# Altium footprint library Library Led Yazaki.PcbLib: 35 footprints (part 2 of 3)
Each footprint in its own frame and in the unit in brackets; x right, y up, seen from the top. Pads: shape width x height; smd on the part's side, far side on the other; paste and mask are expansions set on the pad; w line width, h text height; cw(c..) or ccw(c..) is an arc to the next point about the centre after c.
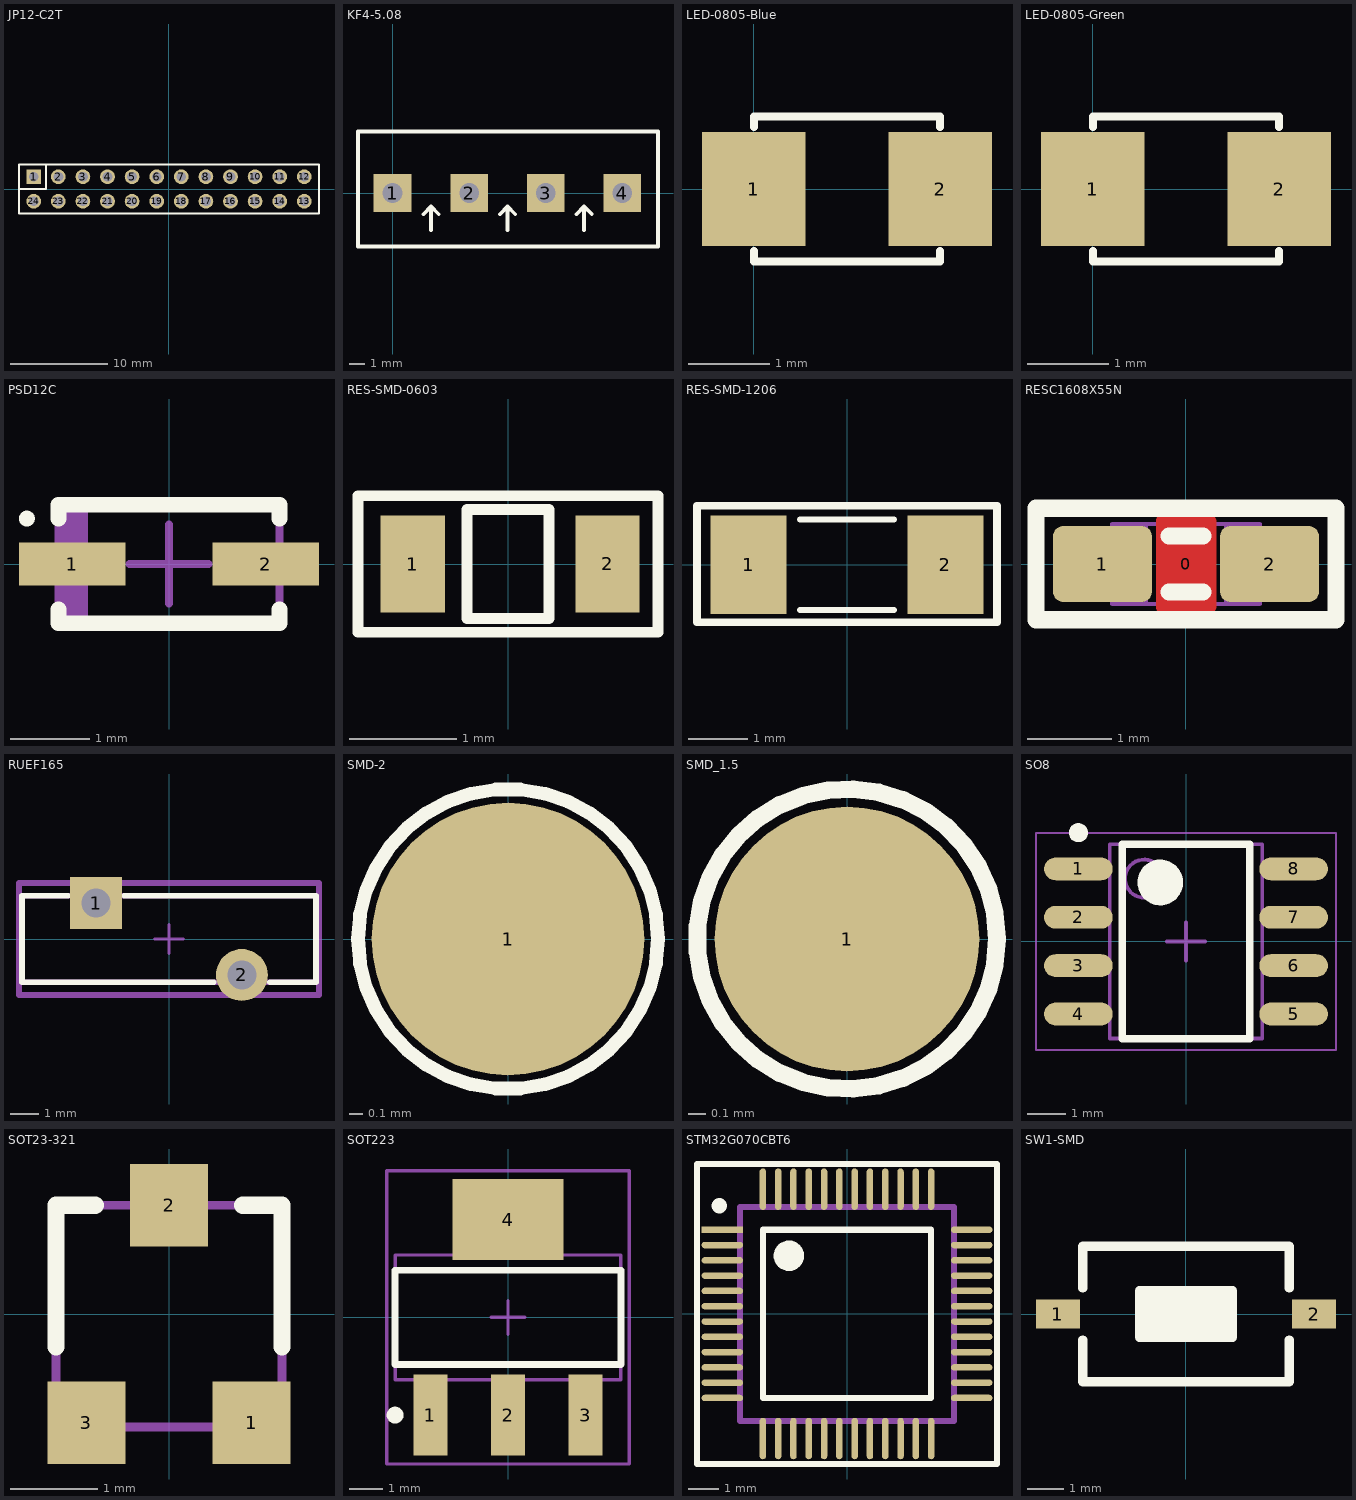
[diagram p1: the footprints below, top view; thin cyan lines are the x and y axes]

## JP12-C2T [mm] "24 pins, dual row, straight, gold plating"
height 8.5
pads (24):
  rect 1.52x1.52 hole 1.02: 1(-13.97,1.27)
  round 1.52 hole 1.02: 2(-11.43,1.27) 3(-8.89,1.27) 4(-6.35,1.27) 5(-3.81,1.27) 6(-1.27,1.27) 7(1.27,1.27) 8(3.81,1.27) 9(6.35,1.27) 10(8.89,1.27) 11(11.43,1.27) 12(13.97,1.27) 13(13.97,-1.27) 14(11.43,-1.27) 15(8.89,-1.27) 16(6.35,-1.27) 17(3.81,-1.27) 18(1.27,-1.27) 19(-1.27,-1.27) 20(-3.81,-1.27) 21(-6.35,-1.27) 22(-8.89,-1.27) 23(-11.43,-1.27) 24(-13.97,-1.27)
Top Overlay:
  lines w0.2: -15.49,0 -12.7,0 -12.7,2.54 ; -15.49,-2.54 -15.49,2.54 15.49,2.54 15.49,-2.54 -15.49,-2.54
3D body "61302421821.stp": height 8.51, standoff -3.09, extent -15.49,-2.54 15.49,2.54

## KF4-5.08 [mm]
height 8.5
pads (4):
  rect 2.5x2.5 hole 1.3: 1(0,0) 2(5.08,0) 3(10.147,0) 4(15.215,0)
Top Overlay:
  lines w0.254: 2.045,-1.41 2.553,-0.902 ; 2.553,-2.464 2.553,-0.902 ; 3.061,-1.41 2.553,-0.902 ; 7.112,-1.41 7.62,-0.902 ; 7.62,-2.464 7.62,-0.902 ; 8.128,-1.41 7.62,-0.902 ; 12.179,-1.41 12.687,-0.902 ; 12.687,-2.464 12.687,-0.902 ; 13.195,-1.41 12.687,-0.902 ; -2.286,-3.531 -2.286,4.064 17.577,4.064 17.577,-3.531 -2.286,-3.531
3D body "SW3DPS-HDR1x4-MED-GREEN.STEP": height 10, standoff -4, extent -2.362,-3.429 17.638,4.071

## LED-0805-Blue [mil]
height 334.65
pads (2):
  rect 50x55 smd: 1(0,0) 2(90,0)
Top Overlay:
  lines w4: 0,-30 0,-35 90,-35 90,-30 ; 0,30 0,35 90,35 90,30
3D body "User Library-led_0805-blue.step": height 43.31, standoff 0, extent 5.24,-24.6 84.77,24.61

## LED-0805-Green [mil]
height 334.65
pads (2):
  rect 50x55 smd: 1(0,0) 2(90,0)
Top Overlay:
  lines w4: 0,-30 0,-35 90,-35 90,-30 ; 0,30 0,35 90,35 90,30
3D body "User Library-led_0805-Green.step": height 43.31, standoff 0, extent 5.24,-24.6 84.77,24.61

## PSD12C [mm] "Molded Diode, 2-Leads, Body 2.60x1.35mm, IPC Medium Density"
height 1.1
pads (2):
  rect 1.35x0.55 smd: 1(-1.225,0) 2(1.225,0)
Top Overlay:
  circle w0.1: c-1.8,0.575 r0.05
  lines w0.2: -1.4,-0.575 -1.4,-0.75 1.4,-0.75 1.4,-0.575 ; -1.4,0.575 -1.4,0.75 1.4,0.75 1.4,0.575
Mechanical 3:
  lines w0.1: -0.5,0 0.5,0 ; 0,-0.5 0,0.5
Mechanical 13:
  rectangle: -1.4,-0.75 -1.023,0.75
  lines w0.1: -1.4,-0.75 1.4,-0.75 1.4,0.75 -1.4,0.75 -1.4,-0.75
3D body "PSD12C.step": height 1.1, standoff 0, extent -1.62,-0.75 1.62,0.75

## RES-SMD-0603 [mm]
height 2.032
pads (2):
  rect 0.6x0.9 smd: 1(-0.889,0) 2(0.927,0)
Top Overlay:
  lines w0.1: -1.397,-0.635 0.889,-0.635 1.397,-0.635 1.397,0.635 -1.397,0.635 -1.397,-0.635 ; -0.381,-0.508 0.381,-0.508 0.381,0.508 -0.381,0.508 -0.381,-0.508
3D body "User Library-SMD RESISTOR-1 (3).step": height 0.43, standoff -0.03, extent -0.8,-0.4 0.8,0.4

## RES-SMD-1206 [mil]
height 334.65
pads (2):
  rect 50x65 smd: 1(-65,0) 2(65,0)
Top Overlay:
  lines w4: -31,-30 31,-30 ; -31,30 31,30
  lines w5: -99,-38 99,-38 99,39 -99,39 -99,-38
3D body "1206 SMD Resistor.step": height 40.05, standoff 0.6, extent -62.99,-31.49 63,31.51

## RESC1608X55N [mm]
height 8.5
pads (3):
  round 0.254 on Mech3: 0(0,0)
  rrect25% 1.17x0.9 smd: 1(-0.991,0) 2(0.991,0)
Top Layer:
  pour cut-out: -0.356,0.508 -0.356,0.523 -0.344,0.551 -0.323,0.573 -0.295,0.584 -0.279,0.584 0.279,0.584 0.295,0.584 0.323,0.573 0.344,0.551 0.356,0.523 0.356,0.508 0.356,-0.508 0.356,-0.523 0.344,-0.551 0.323,-0.573 0.295,-0.584 0.279,-0.584 -0.279,-0.584 -0.295,-0.584 -0.323,-0.573 -0.344,-0.551 -0.356,-0.523 -0.356,-0.508
Top Overlay:
  lines w0.203: -0.203,-0.33 0.203,-0.33 ; -0.203,0.33 0.203,0.33 ; -1.778,-0.66 1.778,-0.66 1.778,0.66 -1.778,0.66 -1.778,-0.66
Mechanical 3:
  lines w0.05: -0.875,-0.475 -0.875,0.475 -0.475,0.475 -0.475,-0.475 -0.875,-0.475 ; -0.475,-0.474 0.475,-0.474 -0.475,-0.474 ; -0.475,0.474 0.475,0.474 -0.475,0.474 ; 0.475,-0.475 0.475,0.475 0.875,0.475 0.875,-0.475 0.475,-0.475
3D body "User Library-RESC1608X05N.STEP": height 0.44, standoff -0.01, extent -0.775,-0.425 0.775,0.425

## RUEF165 [mm]
height 8.5
pads (2):
  rect 1.8x1.8 hole 1 paste-1000 mask+0: 1(-2.525,1.245)
  round 1.8 hole 1 paste-1000 mask+0: 2(2.525,-1.245)
Top Overlay:
  lines w0.2: -3.5,1.5 -5.1,1.5 -5.1,-1.5 1.55,-1.5 ; -1.55,1.5 5.1,1.5 5.1,-1.5 3.5,-1.5
Mechanical 3:
  lines w0.1: -0.5,0 0.5,0 ; 0,-0.5 0,0.5
  lines w0.2: -5.2,-1.945 5.2,-1.945 5.2,1.945 -5.2,1.945 -5.2,-1.945
Mechanical 10:
  lines w0.2: -5.2,-1.945 -5.2,1.945 5.2,1.945 5.2,-1.945 -5.2,-1.945
  text ".Designator" at 0,0.188 h1
Mechanical 12:
  lines w0.2: -5.1,-1.5 -5.1,1.5 5.1,1.5 5.1,-1.5 -5.1,-1.5
3D body "Fuse_Littelfuse_RUEF185_eec.STEP": height 0.25, standoff 0, extent -5.2,-1.945 5.2,1.945

## SMD-2 [mm]
height 8.5
pads (1):
  round 2 smd paste+0 mask+0: 1(0,0)
Top Overlay:
  circle w0.1: c0,0 r1.1

## SMD_1.5 [mm]
height 8.5
pads (1):
  round 1.5 smd paste+0 mask+0: 1(0,0)
Top Overlay:
  circle w0.1: c0,0 r0.85

## SO8 [mm] "SOIC, 8-Leads, Body 4.9x3.9mm, Pitch 1.27mm, IPC High Density"
height 8.5
pads (8):
  oval 1.8x0.6 smd: 1(-2.825,1.905) 2(-2.825,0.635) 3(-2.825,-0.635) 4(-2.825,-1.905) 5(2.825,-1.905) 6(2.825,-0.635) 7(2.825,0.635) 8(2.825,1.905)
Top Overlay:
  circle w0.25: c-2.825,2.855 r0.125
  circle w0.6: c-0.675,1.55 r0.3
  lines w0.2: -1.675,-2.55 -1.675,2.55 1.675,2.55 1.675,-2.55 -1.675,-2.55
Mechanical 13:
  circle w0.1: c-1.1,1.65 r0.5
  lines w0.1: -2,-2.55 -2,2.55 2,2.55 2,-2.55 -2,-2.55
Mechanical 15:
  lines w0.05: -3.937,-2.85 -3.937,2.85 3.937,2.85 3.937,-2.85 -3.937,-2.85
  lines w0.1: -0.5,0 0.5,0 ; 0,-0.5 0,0.5
3D body "CircuitWorks-SO-8 (PIC12FXXX).step": height 1.6, standoff 0, extent -2.995,-2.45 2.995,2.45

## SOT23-321 [mm]
height 1.1
pads (3):
  rect 0.9x0.95 smd mask+0: 1(0.95,-1.25)
  rect 0.9x0.95 smd: 2(0,1.25) 3(-0.95,-1.25)
Top Overlay:
  lines w0.2: -1.3,-0.375 -1.3,1.25 -0.85,1.25 ; 0.85,1.25 1.3,1.25 1.3,-0.375
Mechanical 7:
  rectangle: -0.3,1.25 0.3,1.5
  region: -0.625,-1.275 -1.225,-1.275 -1.225,-1.525 -0.625,-1.525
  region: 1.225,-1.275 0.625,-1.275 0.625,-1.525 1.225,-1.525
  lines w0.1: -1.3,-1.3 -1.3,1.25 1.3,1.25 1.3,-1.3 -1.3,-1.3
  text ".Comment" at -1.2,0.325 h0.5
  text ".Designator" at -1.2,0.75 h0.5
3D body "SW3DPS-SOT-23-DEFAULT.STEP": height 1.06, standoff -0.04, extent -1.524,-1.23 1.476,1.27

## SOT223 [mm]
height 8.5
pads (4):
  rect 1x2.4 smd: 1(-2.3,-2.9) 2(0,-2.9) 3(2.3,-2.9)
  rect 3.3x2.4 smd: 4(0,2.9)
Top Overlay:
  circle w0.25: c-3.35,-2.9 r0.125
  lines w0.2: -3.35,-1.4 3.35,-1.4 3.35,1.4 -3.35,1.4 -3.35,-1.4
Mechanical 13:
  lines w0.1: -3.35,-1.85 3.35,-1.85 3.35,1.85 -3.35,1.85 -3.35,-1.85
Mechanical 15:
  lines w0.1: -0.5,0 0.5,0 ; 0,-0.5 0,0.5 ; -3.6,-4.35 3.6,-4.35 3.6,4.35 -3.6,4.35 -3.6,-4.35
3D body "SW3DPS-SOT-223-DEFAULT.step": height 1.68, standoff 0, extent -3.25,-3.556 3.25,3.404

## STM32G070CBT6 [mm]
height 8.5
pads (48):
  rect 1.355x0.212 smd paste+0 mask+0.01: 1(-4.075,2.75)
  rrect100% 1.355x0.212 smd paste+0 mask+0.01: 2(-4.075,2.25) 3(-4.075,1.75) 4(-4.075,1.25) 5(-4.075,0.75) 6(-4.075,0.25) 7(-4.075,-0.25) 8(-4.075,-0.75) 9(-4.075,-1.25) 10(-4.075,-1.75) 11(-4.075,-2.25) 12(-4.075,-2.75) 25(4.075,-2.75) 26(4.075,-2.25) 27(4.075,-1.75) 28(4.075,-1.25) 29(4.075,-0.75) 30(4.075,-0.25) 31(4.075,0.25) 32(4.075,0.75) 33(4.075,1.25) 34(4.075,1.75) 35(4.075,2.25) 36(4.075,2.75)
  rrect100% 0.212x1.355 smd paste+0 mask+0.01: 13(-2.75,-4.075) 14(-2.25,-4.075) 15(-1.75,-4.075) 16(-1.25,-4.075) 17(-0.75,-4.075) 18(-0.25,-4.075) 19(0.25,-4.075) 20(0.75,-4.075) 21(1.25,-4.075) 22(1.75,-4.075) 23(2.25,-4.075) 24(2.75,-4.075) 37(2.75,4.075) 38(2.25,4.075) 39(1.75,4.075) 40(1.25,4.075) 41(0.75,4.075) 42(0.25,4.075) 43(-0.25,4.075) 44(-0.75,4.075) 45(-1.25,4.075) 46(-1.75,4.075) 47(-2.25,4.075) 48(-2.75,4.075)
Top Overlay:
  circle w0.5: c-1.9,1.9 r0.25
  circle w0.25: c-4.175,3.535 r0.125
  lines w0.2: -4.9,-4.907 4.841,-4.907 4.87,-4.878 4.9,-4.908 4.9,4.9 -4.9,4.9 -4.9,-4.907 ; -2.75,-2.75 -2.75,2.75 2.75,2.75 2.75,-2.75 -2.75,-2.75
Mechanical 3:
  lines w0.1: -4.9,-4.9 -4.9,4.9 4.9,4.9 4.9,-4.9 -4.9,-4.9 ; -2.7,-2.7 -2.7,2.7 2.7,2.7 2.7,-2.7 -2.7,-2.7
Mechanical 12:
  lines w0.2: -3.5,-3.5 -3.5,3.5 3.5,3.5 3.5,-3.5 -3.5,-3.5
3D body "IC_STMicroelectronics_STM32G070CBT6_eec.STEP": height 0.25, standoff 0, extent -4.853,-4.853 4.853,4.853

## SW1-SMD [mm]
height 8.5
pads (2):
  rect 1.2x0.8 smd: 1(-3.5,0) 2(3.5,0)
Top Overlay:
  rectangle: -1.27,-0.635 1.27,0.635
  lines w0.254: -2.819,-0.711 -2.819,-1.854 2.819,-1.854 2.819,-0.711 ; -2.819,0.711 -2.819,1.854 2.819,1.854 2.819,0.711 ; -1.27,-0.635 -1.27,0.635 1.27,0.635 1.27,-0.635 -1.27,-0.635
3D body "User Library-Button-SMD.step": height 2.5, standoff 0, extent -3.05,-1.85 3.05,1.85